# Altium schematic symbol library kmilo17pet-NSC_MiscPower.SchLib: 1552 symbols (part 6 of 43)
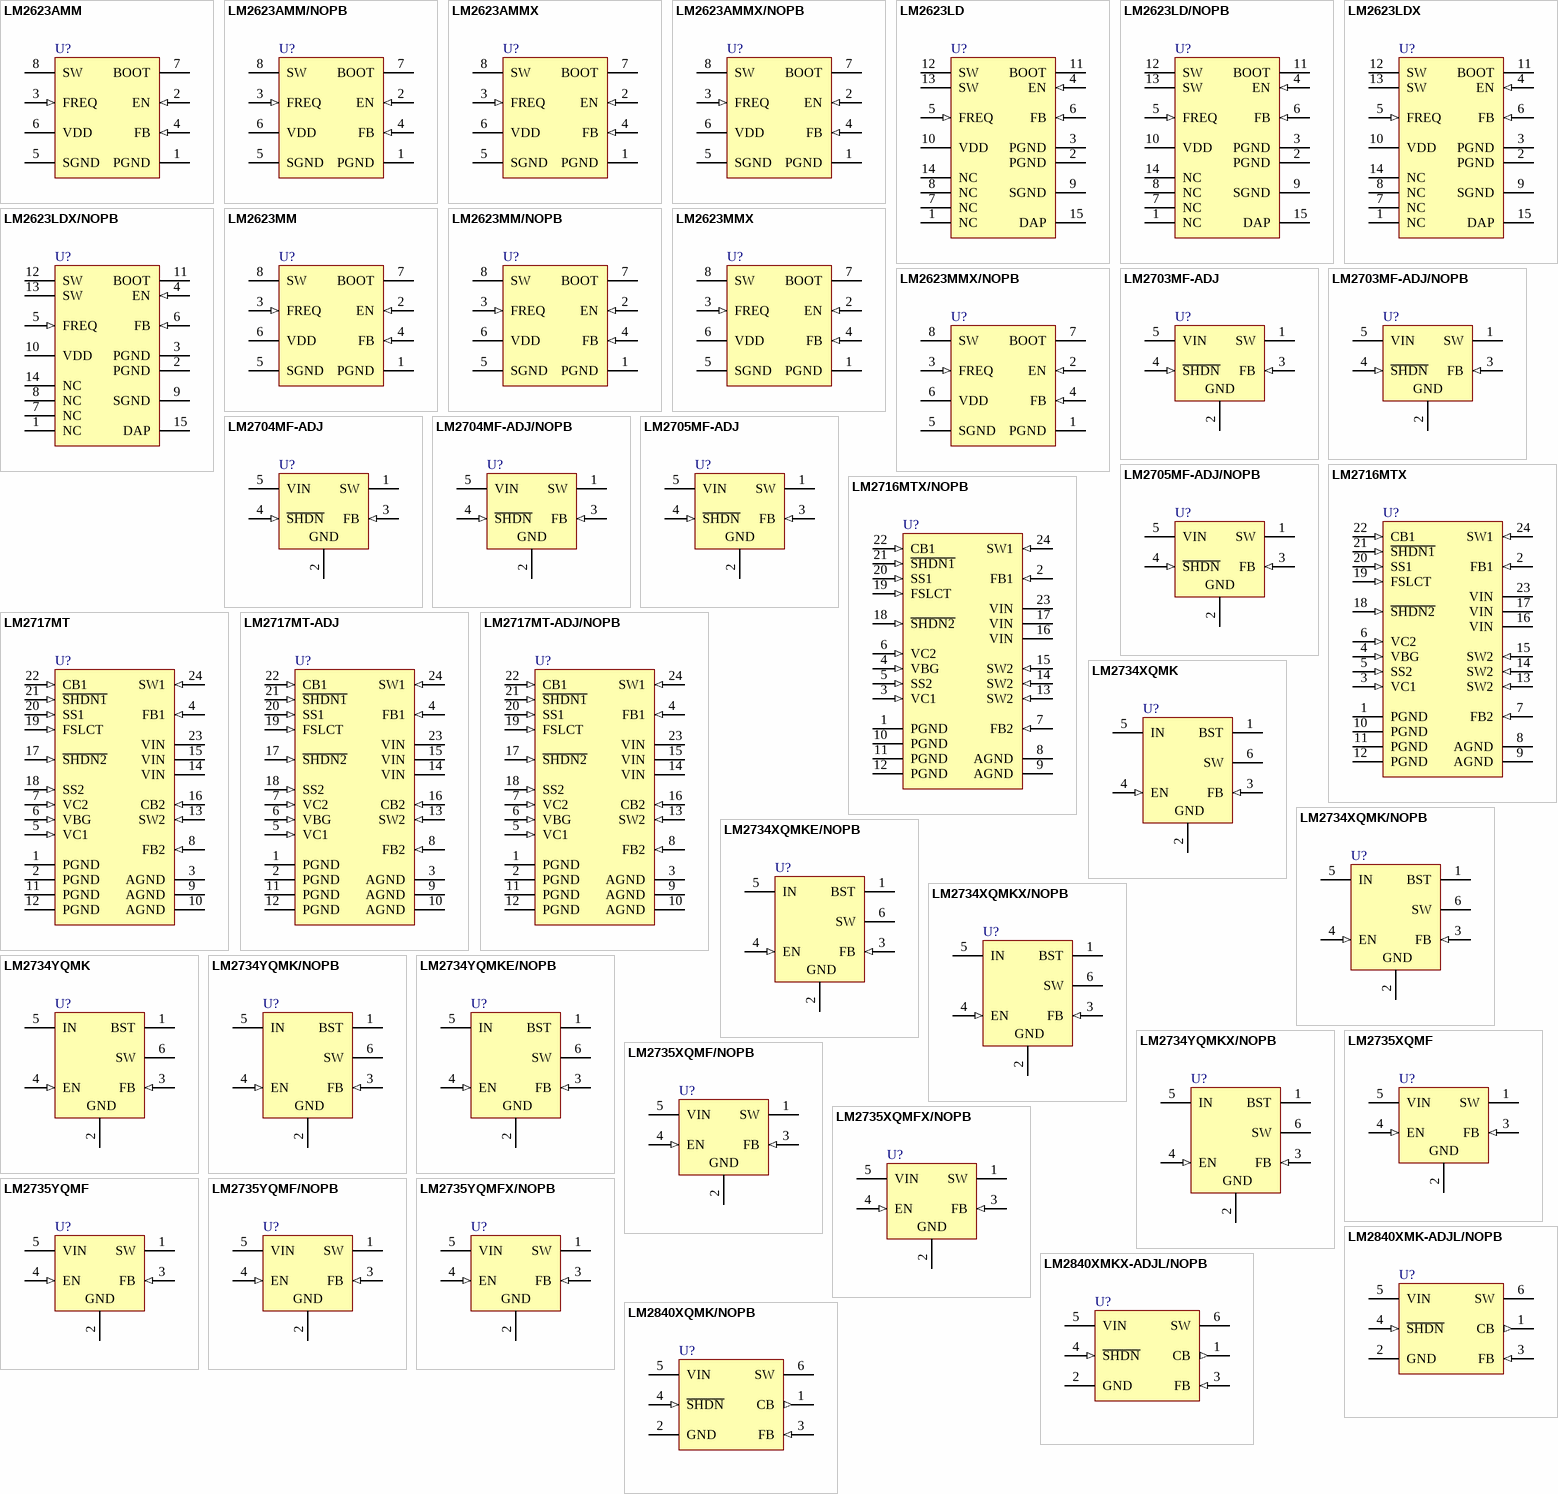
[diagram p62: symbols LM2623AMM to LM2840XQMK/NOPB]

## LM2717MT-ADJ
designator U?
Dual Step-Down DC/DC Converter, 24-pin TSSOP; PartNumber: LM2717MT-ADJ; Manufacturer: National Semiconductor; PackageTopMarking: NSUZXYTTE#*LM2717*MT-ADJ; PowerWise: N; CompType: MiscPower; High-Reliability: Y; DatasheetVersion: Mar-2008; PackageVersion: revE, Mar-2003; PackageReference: MTC24; PackageDescription: Molded TSSOP, Jedec, 7.8 x 4.4 x 0.9mm Body, 24 Lead, 0.65mm Pitch; RoHS: N; PinCount: 24; Code_JEDEC: MO-153-AD; ComponentLink1Description: Manufacturer URL; ComponentLink1URL: http://www.national.com/; ComponentLink2Description: LM2717 Datasheet; ComponentLink2URL: http://www.national.com/ds/LM/LM2717-ADJ.pdf; ComponentLink3Description: LM2717 Web Page; ComponentLink3URL: http://www.national.com/pf/LM/LM2717.html; ComponentLink4Description: MTC24 Package Page; ComponentLink4URL: http://www.national.com/packaging/folders/mtc24.html
footprint MTC24_N (TSOP, 24-Leads, Body 7.8x4.4mm, Pitch 0.65mm, IPC Medium Density)
footprint MTC24_L (TSOP, 24-Leads, Body 7.8x4.4mm, Pitch 0.65mm, IPC High Density)
footprint MTC24_M (TSOP, 24-Leads, Body 7.8x4.4mm, Pitch 0.65mm, IPC Low Density)
pins: 1 PGND (power) "Power ground. AGND and PGND pins must be connected together directly at the part.", 2 PGND (power) "Power ground. AGND and PGND pins must be connected together directly at the part.", 3 AGND (power) "Analog ground. AGND and PGND pins must be connected together directly at the part.", 4 FB1 (in) "Fixed buck output voltage feedback input.", 5 VC1 (in) "Fixed buck compensation network connection. Connected to the output of the voltage error amplifier.", 6 VBG (in) "Bandgap connection.", 7 VC2 (in) "Adjustable buck compensation network connection.", 8 FB2 (in) "Adjustable buck output voltage feedback input.", 9 AGND (power) "Analog ground. AGND and PGND pins must be connected together directly at the part.", 10 AGND (power) "Analog ground. AGND and PGND pins must be connected together directly at the part.", 11 PGND (power) "Power ground. AGND and PGND pins must be connected together directly at the part.", 12 PGND (power) "Power ground. AGND and PGND pins must be connected together directly at the part.", 13 SW2 (in) "Adjustable buck power switch input.", 14 VIN (power) "Analog power input.", 15 VIN (power) "Analog power input.", 16 CB2 (in) "Adjustable buck converter bootstrap capacitor connection.", 17 ~{SHDN2} (in) "Shutdown pin for adjustable buck converter. Active low.", 18 SS2 (in) "Adjustable buck soft start pin.", 19 FSLCT (in) "Switching frequency select input.", 20 SS1 (in) "Fixed buck soft start pin.", 21 ~{SHDN1} (in) "Shutdown pin for fixed buck converter. Active low.", 22 CB1 (in) "Fixed buck converter bootstrap capacitor connection.", 23 VIN (power) "Analog power input.", 24 SW1 (in) "Fixed buck power switch input. Switch connected between VIN pins and SW1 pin."

## LM2717MT-ADJ/NOPB
designator U?
Dual Step-Down DC/DC Converter, 24-pin TSSOP, Pb-Free; PartNumber: LM2717MT-ADJ/NOPB; Manufacturer: National Semiconductor; PackageTopMarking: NSUZXYTTE#*LM2717*MT-ADJ; PowerWise: N; CompType: MiscPower; High-Reliability: Y; DatasheetVersion: Mar-2008; PackageVersion: revE, Mar-2003; PackageReference: MTC24; PackageDescription: Molded TSSOP, Jedec, 7.8 x 4.4 x 0.9mm Body, 24 Lead, 0.65mm Pitch; RoHS: Y; PinCount: 24; Code_JEDEC: MO-153-AD; ComponentLink1Description: Manufacturer URL; ComponentLink1URL: http://www.national.com/; ComponentLink2Description: LM2717 Datasheet; ComponentLink2URL: http://www.national.com/ds/LM/LM2717-ADJ.pdf; ComponentLink3Description: LM2717 Web Page; ComponentLink3URL: http://www.national.com/pf/LM/LM2717.html; ComponentLink4Description: MTC24 Package Page; ComponentLink4URL: http://www.national.com/packaging/folders/mtc24.html
footprint MTC24_N (TSOP, 24-Leads, Body 7.8x4.4mm, Pitch 0.65mm, IPC Medium Density)
footprint MTC24_L (TSOP, 24-Leads, Body 7.8x4.4mm, Pitch 0.65mm, IPC High Density)
footprint MTC24_M (TSOP, 24-Leads, Body 7.8x4.4mm, Pitch 0.65mm, IPC Low Density)
pins: 1 PGND (power) "Power ground. AGND and PGND pins must be connected together directly at the part.", 2 PGND (power) "Power ground. AGND and PGND pins must be connected together directly at the part.", 3 AGND (power) "Analog ground. AGND and PGND pins must be connected together directly at the part.", 4 FB1 (in) "Fixed buck output voltage feedback input.", 5 VC1 (in) "Fixed buck compensation network connection. Connected to the output of the voltage error amplifier.", 6 VBG (in) "Bandgap connection.", 7 VC2 (in) "Adjustable buck compensation network connection.", 8 FB2 (in) "Adjustable buck output voltage feedback input.", 9 AGND (power) "Analog ground. AGND and PGND pins must be connected together directly at the part.", 10 AGND (power) "Analog ground. AGND and PGND pins must be connected together directly at the part.", 11 PGND (power) "Power ground. AGND and PGND pins must be connected together directly at the part.", 12 PGND (power) "Power ground. AGND and PGND pins must be connected together directly at the part.", 13 SW2 (in) "Adjustable buck power switch input.", 14 VIN (power) "Analog power input.", 15 VIN (power) "Analog power input.", 16 CB2 (in) "Adjustable buck converter bootstrap capacitor connection.", 17 ~{SHDN2} (in) "Shutdown pin for adjustable buck converter. Active low.", 18 SS2 (in) "Adjustable buck soft start pin.", 19 FSLCT (in) "Switching frequency select input.", 20 SS1 (in) "Fixed buck soft start pin.", 21 ~{SHDN1} (in) "Shutdown pin for fixed buck converter. Active low.", 22 CB1 (in) "Fixed buck converter bootstrap capacitor connection.", 23 VIN (power) "Analog power input.", 24 SW1 (in) "Fixed buck power switch input. Switch connected between VIN pins and SW1 pin."

## LM2734XQMK
designator U?
1A Load Step-Down DC-DC Regulator, 6-pin Tiny SOT23; PartNumber: LM2734XQMK; Manufacturer: National Semiconductor; PackageTopMarking: SUKB*XTT; PowerWise: N; CompType: MiscPower; High-Reliability: Y; DatasheetVersion: Apr-2009; PackageVersion: revE, Nov-2008; PackageReference: MK06A; PackageDescription: Molded TSOT, 2.97 x 1.65 x 0.87mm Body, 6 Lead, 0.95mm Pitch; RoHS: Y; PinCount: 6; Code_JEDEC: MO-193-AA; Code_IPC: SOT26A-6; ComponentLink1Description: Manufacturer URL; ComponentLink1URL: http://www.national.com/; ComponentLink2Description: LM2734 Datasheet; ComponentLink2URL: http://www.national.com/ds/LM/LM2734.pdf; ComponentLink3Description: LM2734 Web Page; ComponentLink3URL: http://www.national.com/pf/LM/LM2734.html; ComponentLink4Description: MK06A Package Page; ComponentLink4URL: http://www.national.com/packaging/folders/mk06a.html
footprint MK06A_N (SOT23, 6-Leads, Body 3.0x1.7mm, Pitch 0.95mm, Lead Span 2.9mm, IPC Medium Density)
footprint MK06A_L (SOT23, 6-Leads, Body 3.0x1.7mm, Pitch 0.95mm, Lead Span 2.9mm, IPC High Density)
footprint MK06A_M (SOT23, 6-Leads, Body 3.0x1.7mm, Pitch 0.95mm, Lead Span 2.9mm, IPC Low Density)
pins: 1 BST, 2 GND (power), 3 FB (in), 4 EN (in), 5 IN (power), 6 SW (power)

## LM2734XQMK/NOPB
designator U?
1A Load Step-Down DC-DC Regulator, 6-pin Tiny SOT23, Pb-Free; PartNumber: LM2734XQMK/NOPB; Manufacturer: National Semiconductor; PackageTopMarking: SUKB*XTT; PowerWise: N; CompType: MiscPower; High-Reliability: Y; DatasheetVersion: Apr-2009; PackageVersion: revE, Nov-2008; PackageReference: MK06A; PackageDescription: Molded TSOT, 2.97 x 1.65 x 0.87mm Body, 6 Lead, 0.95mm Pitch; RoHS: Y; PinCount: 6; Code_JEDEC: MO-193-AA; Code_IPC: SOT26A-6; ComponentLink1Description: Manufacturer URL; ComponentLink1URL: http://www.national.com/; ComponentLink2Description: LM2734 Datasheet; ComponentLink2URL: http://www.national.com/ds/LM/LM2734.pdf; ComponentLink3Description: LM2734 Web Page; ComponentLink3URL: http://www.national.com/pf/LM/LM2734.html; ComponentLink4Description: MK06A Package Page; ComponentLink4URL: http://www.national.com/packaging/folders/mk06a.html
footprint MK06A_N (SOT23, 6-Leads, Body 3.0x1.7mm, Pitch 0.95mm, Lead Span 2.9mm, IPC Medium Density)
footprint MK06A_L (SOT23, 6-Leads, Body 3.0x1.7mm, Pitch 0.95mm, Lead Span 2.9mm, IPC High Density)
footprint MK06A_M (SOT23, 6-Leads, Body 3.0x1.7mm, Pitch 0.95mm, Lead Span 2.9mm, IPC Low Density)
pins: 1 BST, 2 GND (power), 3 FB (in), 4 EN (in), 5 IN (power), 6 SW (power)

## LM2734XQMKE/NOPB
designator U?
1A Load Step-Down DC-DC Regulator, 6-pin Tiny SOT23, Pb-Free; PartNumber: LM2734XQMKE/NOPB; Manufacturer: National Semiconductor; PackageTopMarking: SUKB*XTT; PowerWise: N; CompType: MiscPower; High-Reliability: Y; DatasheetVersion: Apr-2009; PackageVersion: revE, Nov-2008; PackageReference: MK06A; PackageDescription: Molded TSOT, 2.97 x 1.65 x 0.87mm Body, 6 Lead, 0.95mm Pitch; RoHS: Y; PinCount: 6; Code_JEDEC: MO-193-AA; Code_IPC: SOT26A-6; ComponentLink1Description: Manufacturer URL; ComponentLink1URL: http://www.national.com/; ComponentLink2Description: LM2734 Datasheet; ComponentLink2URL: http://www.national.com/ds/LM/LM2734.pdf; ComponentLink3Description: LM2734 Web Page; ComponentLink3URL: http://www.national.com/pf/LM/LM2734.html; ComponentLink4Description: MK06A Package Page; ComponentLink4URL: http://www.national.com/packaging/folders/mk06a.html
footprint MK06A_N (SOT23, 6-Leads, Body 3.0x1.7mm, Pitch 0.95mm, Lead Span 2.9mm, IPC Medium Density)
footprint MK06A_L (SOT23, 6-Leads, Body 3.0x1.7mm, Pitch 0.95mm, Lead Span 2.9mm, IPC High Density)
footprint MK06A_M (SOT23, 6-Leads, Body 3.0x1.7mm, Pitch 0.95mm, Lead Span 2.9mm, IPC Low Density)
pins: 1 BST, 2 GND (power), 3 FB (in), 4 EN (in), 5 IN (power), 6 SW (power)

## LM2734XQMKX/NOPB
designator U?
1A Load Step-Down DC-DC Regulator, 6-pin Tiny SOT23, Pb-Free; PartNumber: LM2734XQMKX/NOPB; Manufacturer: National Semiconductor; PackageTopMarking: SUKB*XTT; PowerWise: N; CompType: MiscPower; High-Reliability: Y; DatasheetVersion: Apr-2009; PackageVersion: revE, Nov-2008; PackageReference: MK06A; PackageDescription: Molded TSOT, 2.97 x 1.65 x 0.87mm Body, 6 Lead, 0.95mm Pitch; RoHS: Y; PinCount: 6; Code_JEDEC: MO-193-AA; Code_IPC: SOT26A-6; ComponentLink1Description: Manufacturer URL; ComponentLink1URL: http://www.national.com/; ComponentLink2Description: LM2734 Datasheet; ComponentLink2URL: http://www.national.com/ds/LM/LM2734.pdf; ComponentLink3Description: LM2734 Web Page; ComponentLink3URL: http://www.national.com/pf/LM/LM2734.html; ComponentLink4Description: MK06A Package Page; ComponentLink4URL: http://www.national.com/packaging/folders/mk06a.html
footprint MK06A_N (SOT23, 6-Leads, Body 3.0x1.7mm, Pitch 0.95mm, Lead Span 2.9mm, IPC Medium Density)
footprint MK06A_L (SOT23, 6-Leads, Body 3.0x1.7mm, Pitch 0.95mm, Lead Span 2.9mm, IPC High Density)
footprint MK06A_M (SOT23, 6-Leads, Body 3.0x1.7mm, Pitch 0.95mm, Lead Span 2.9mm, IPC Low Density)
pins: 1 BST, 2 GND (power), 3 FB (in), 4 EN (in), 5 IN (power), 6 SW (power)

## LM2734YQMK
designator U?
1A Load Step-Down DC-DC Regulator, 6-pin Tiny SOT23; PartNumber: LM2734YQMK; Manufacturer: National Semiconductor; PackageTopMarking: SVCB*XTT; PowerWise: N; CompType: MiscPower; High-Reliability: Y; DatasheetVersion: Apr-2009; PackageVersion: revE, Nov-2008; PackageReference: MK06A; PackageDescription: Molded TSOT, 2.97 x 1.65 x 0.87mm Body, 6 Lead, 0.95mm Pitch; RoHS: Y; PinCount: 6; Code_JEDEC: MO-193-AA; Code_IPC: SOT26A-6; ComponentLink1Description: Manufacturer URL; ComponentLink1URL: http://www.national.com/; ComponentLink2Description: LM2734 Datasheet; ComponentLink2URL: http://www.national.com/ds/LM/LM2734.pdf; ComponentLink3Description: LM2734 Web Page; ComponentLink3URL: http://www.national.com/pf/LM/LM2734.html; ComponentLink4Description: MK06A Package Page; ComponentLink4URL: http://www.national.com/packaging/folders/mk06a.html
footprint MK06A_N (SOT23, 6-Leads, Body 3.0x1.7mm, Pitch 0.95mm, Lead Span 2.9mm, IPC Medium Density)
footprint MK06A_L (SOT23, 6-Leads, Body 3.0x1.7mm, Pitch 0.95mm, Lead Span 2.9mm, IPC High Density)
footprint MK06A_M (SOT23, 6-Leads, Body 3.0x1.7mm, Pitch 0.95mm, Lead Span 2.9mm, IPC Low Density)
pins: 1 BST, 2 GND (power), 3 FB (in), 4 EN (in), 5 IN (power), 6 SW (power)

## LM2734YQMK/NOPB
designator U?
1A Load Step-Down DC-DC Regulator, 6-pin Tiny SOT23, Pb-Free; PartNumber: LM2734YQMK/NOPB; Manufacturer: National Semiconductor; PackageTopMarking: SVCB*XTT; PowerWise: N; CompType: MiscPower; High-Reliability: Y; DatasheetVersion: Apr-2009; PackageVersion: revE, Nov-2008; PackageReference: MK06A; PackageDescription: Molded TSOT, 2.97 x 1.65 x 0.87mm Body, 6 Lead, 0.95mm Pitch; RoHS: Y; PinCount: 6; Code_JEDEC: MO-193-AA; Code_IPC: SOT26A-6; ComponentLink1Description: Manufacturer URL; ComponentLink1URL: http://www.national.com/; ComponentLink2Description: LM2734 Datasheet; ComponentLink2URL: http://www.national.com/ds/LM/LM2734.pdf; ComponentLink3Description: LM2734 Web Page; ComponentLink3URL: http://www.national.com/pf/LM/LM2734.html; ComponentLink4Description: MK06A Package Page; ComponentLink4URL: http://www.national.com/packaging/folders/mk06a.html
footprint MK06A_N (SOT23, 6-Leads, Body 3.0x1.7mm, Pitch 0.95mm, Lead Span 2.9mm, IPC Medium Density)
footprint MK06A_L (SOT23, 6-Leads, Body 3.0x1.7mm, Pitch 0.95mm, Lead Span 2.9mm, IPC High Density)
footprint MK06A_M (SOT23, 6-Leads, Body 3.0x1.7mm, Pitch 0.95mm, Lead Span 2.9mm, IPC Low Density)
pins: 1 BST, 2 GND (power), 3 FB (in), 4 EN (in), 5 IN (power), 6 SW (power)

## LM2734YQMKE/NOPB
designator U?
1A Load Step-Down DC-DC Regulator, 6-pin Tiny SOT23, Pb-Free; PartNumber: LM2734YQMKE/NOPB; Manufacturer: National Semiconductor; PackageTopMarking: SVCB*XTT; PowerWise: N; CompType: MiscPower; High-Reliability: Y; DatasheetVersion: Apr-2009; PackageVersion: revE, Nov-2008; PackageReference: MK06A; PackageDescription: Molded TSOT, 2.97 x 1.65 x 0.87mm Body, 6 Lead, 0.95mm Pitch; RoHS: Y; PinCount: 6; Code_JEDEC: MO-193-AA; Code_IPC: SOT26A-6; ComponentLink1Description: Manufacturer URL; ComponentLink1URL: http://www.national.com/; ComponentLink2Description: LM2734 Datasheet; ComponentLink2URL: http://www.national.com/ds/LM/LM2734.pdf; ComponentLink3Description: LM2734 Web Page; ComponentLink3URL: http://www.national.com/pf/LM/LM2734.html; ComponentLink4Description: MK06A Package Page; ComponentLink4URL: http://www.national.com/packaging/folders/mk06a.html
footprint MK06A_N (SOT23, 6-Leads, Body 3.0x1.7mm, Pitch 0.95mm, Lead Span 2.9mm, IPC Medium Density)
footprint MK06A_L (SOT23, 6-Leads, Body 3.0x1.7mm, Pitch 0.95mm, Lead Span 2.9mm, IPC High Density)
footprint MK06A_M (SOT23, 6-Leads, Body 3.0x1.7mm, Pitch 0.95mm, Lead Span 2.9mm, IPC Low Density)
pins: 1 BST, 2 GND (power), 3 FB (in), 4 EN (in), 5 IN (power), 6 SW (power)

## LM2734YQMKX/NOPB
designator U?
1A Load Step-Down DC-DC Regulator, 6-pin Tiny SOT23, Pb-Free; PartNumber: LM2734YQMKX/NOPB; Manufacturer: National Semiconductor; PackageTopMarking: SVCB*XTT; PowerWise: N; CompType: MiscPower; High-Reliability: Y; DatasheetVersion: Apr-2009; PackageVersion: revE, Nov-2008; PackageReference: MK06A; PackageDescription: Molded TSOT, 2.97 x 1.65 x 0.87mm Body, 6 Lead, 0.95mm Pitch; RoHS: Y; PinCount: 6; Code_JEDEC: MO-193-AA; Code_IPC: SOT26A-6; ComponentLink1Description: Manufacturer URL; ComponentLink1URL: http://www.national.com/; ComponentLink2Description: LM2734 Datasheet; ComponentLink2URL: http://www.national.com/ds/LM/LM2734.pdf; ComponentLink3Description: LM2734 Web Page; ComponentLink3URL: http://www.national.com/pf/LM/LM2734.html; ComponentLink4Description: MK06A Package Page; ComponentLink4URL: http://www.national.com/packaging/folders/mk06a.html
footprint MK06A_N (SOT23, 6-Leads, Body 3.0x1.7mm, Pitch 0.95mm, Lead Span 2.9mm, IPC Medium Density)
footprint MK06A_L (SOT23, 6-Leads, Body 3.0x1.7mm, Pitch 0.95mm, Lead Span 2.9mm, IPC High Density)
footprint MK06A_M (SOT23, 6-Leads, Body 3.0x1.7mm, Pitch 0.95mm, Lead Span 2.9mm, IPC Low Density)
pins: 1 BST, 2 GND (power), 3 FB (in), 4 EN (in), 5 IN (power), 6 SW (power)

## LM2735XQMF
designator U?
520kHz/1.6MHz - Space-Efficient Boost and SEPIC DC-DC Regulator, 5-pin SOT-23; PartNumber: LM2735XQMF; Manufacturer: National Semiconductor; PackageTopMarking: SVDB*XTT; PowerWise: N; CompType: MiscPower; High-Reliability: Y; DatasheetVersion: Feb-2009; PackageVersion: revD, Aug-2008; PackageReference: MF05A; PackageDescription: Molded SOT-23, .115 x .063 x .040 in Body, 5 Lead, .0375 in Pitch; RoHS: Y; PinCount: 5; ComponentLink1Description: Manufacturer URL; ComponentLink1URL: http://www.national.com/; ComponentLink2Description: LM2735 Datasheet; ComponentLink2URL: http://www.national.com/ds/LM/LM2735.pdf; ComponentLink3Description: LM2735 Web Page; ComponentLink3URL: http://www.national.com/pf/LM/LM2735.html; ComponentLink4Description: MF05A Package Page; ComponentLink4URL: http://www.national.com/packaging/folders/mf05a.html
footprint MF05A_N (SOT23, 5-Leads, Body 2.9x1.6mm, Pitch 0.95mm, Lead Span 2.8mm, IPC Medium Density)
footprint MF05A_L (SOT23, 5-Leads, Body 2.9x1.6mm, Pitch 0.95mm, Lead Span 2.8mm, IPC High Density)
footprint MF05A_M (SOT23, 5-Leads, Body 2.9x1.6mm, Pitch 0.95mm, Lead Span 2.8mm, IPC Low Density)
pins: 1 SW (power), 2 GND (power), 3 FB (in), 4 EN (in), 5 VIN (power)

## LM2735XQMF/NOPB
designator U?
520kHz/1.6MHz - Space-Efficient Boost and SEPIC DC-DC Regulator, 5-pin SOT-23, Pb-Free; PartNumber: LM2735XQMF/NOPB; Manufacturer: National Semiconductor; PackageTopMarking: SVDB*XTT; PowerWise: N; CompType: MiscPower; High-Reliability: Y; DatasheetVersion: Feb-2009; PackageVersion: revD, Aug-2008; PackageReference: MF05A; PackageDescription: Molded SOT-23, .115 x .063 x .040 in Body, 5 Lead, .0375 in Pitch; RoHS: Y; PinCount: 5; ComponentLink1Description: Manufacturer URL; ComponentLink1URL: http://www.national.com/; ComponentLink2Description: LM2735 Datasheet; ComponentLink2URL: http://www.national.com/ds/LM/LM2735.pdf; ComponentLink3Description: LM2735 Web Page; ComponentLink3URL: http://www.national.com/pf/LM/LM2735.html; ComponentLink4Description: MF05A Package Page; ComponentLink4URL: http://www.national.com/packaging/folders/mf05a.html
footprint MF05A_N (SOT23, 5-Leads, Body 2.9x1.6mm, Pitch 0.95mm, Lead Span 2.8mm, IPC Medium Density)
footprint MF05A_L (SOT23, 5-Leads, Body 2.9x1.6mm, Pitch 0.95mm, Lead Span 2.8mm, IPC High Density)
footprint MF05A_M (SOT23, 5-Leads, Body 2.9x1.6mm, Pitch 0.95mm, Lead Span 2.8mm, IPC Low Density)
pins: 1 SW (power), 2 GND (power), 3 FB (in), 4 EN (in), 5 VIN (power)

## LM2735XQMFX/NOPB
designator U?
520kHz/1.6MHz - Space-Efficient Boost and SEPIC DC-DC Regulator, 5-pin SOT-23, Pb-Free; PartNumber: LM2735XQMFX/NOPB; Manufacturer: National Semiconductor; PackageTopMarking: SVDB*XTT; PowerWise: N; CompType: MiscPower; High-Reliability: Y; DatasheetVersion: Feb-2009; PackageVersion: revD, Aug-2008; PackageReference: MF05A; PackageDescription: Molded SOT-23, .115 x .063 x .040 in Body, 5 Lead, .0375 in Pitch; RoHS: Y; PinCount: 5; ComponentLink1Description: Manufacturer URL; ComponentLink1URL: http://www.national.com/; ComponentLink2Description: LM2735 Datasheet; ComponentLink2URL: http://www.national.com/ds/LM/LM2735.pdf; ComponentLink3Description: LM2735 Web Page; ComponentLink3URL: http://www.national.com/pf/LM/LM2735.html; ComponentLink4Description: MF05A Package Page; ComponentLink4URL: http://www.national.com/packaging/folders/mf05a.html
footprint MF05A_N (SOT23, 5-Leads, Body 2.9x1.6mm, Pitch 0.95mm, Lead Span 2.8mm, IPC Medium Density)
footprint MF05A_L (SOT23, 5-Leads, Body 2.9x1.6mm, Pitch 0.95mm, Lead Span 2.8mm, IPC High Density)
footprint MF05A_M (SOT23, 5-Leads, Body 2.9x1.6mm, Pitch 0.95mm, Lead Span 2.8mm, IPC Low Density)
pins: 1 SW (power), 2 GND (power), 3 FB (in), 4 EN (in), 5 VIN (power)

## LM2735YQMF
designator U?
520kHz/1.6MHz - Space-Efficient Boost and SEPIC DC-DC Regulator, 5-pin SOT-23; PartNumber: LM2735YQMF; Manufacturer: National Semiconductor; PackageTopMarking: SXUB*XTT; PowerWise: N; CompType: MiscPower; High-Reliability: Y; DatasheetVersion: Feb-2009; PackageVersion: revD, Aug-2008; PackageReference: MF05A; PackageDescription: Molded SOT-23, .115 x .063 x .040 in Body, 5 Lead, .0375 in Pitch; RoHS: Y; PinCount: 5; ComponentLink1Description: Manufacturer URL; ComponentLink1URL: http://www.national.com/; ComponentLink2Description: LM2735 Datasheet; ComponentLink2URL: http://www.national.com/ds/LM/LM2735.pdf; ComponentLink3Description: LM2735 Web Page; ComponentLink3URL: http://www.national.com/pf/LM/LM2735.html; ComponentLink4Description: MF05A Package Page; ComponentLink4URL: http://www.national.com/packaging/folders/mf05a.html
footprint MF05A_N (SOT23, 5-Leads, Body 2.9x1.6mm, Pitch 0.95mm, Lead Span 2.8mm, IPC Medium Density)
footprint MF05A_L (SOT23, 5-Leads, Body 2.9x1.6mm, Pitch 0.95mm, Lead Span 2.8mm, IPC High Density)
footprint MF05A_M (SOT23, 5-Leads, Body 2.9x1.6mm, Pitch 0.95mm, Lead Span 2.8mm, IPC Low Density)
pins: 1 SW (power), 2 GND (power), 3 FB (in), 4 EN (in), 5 VIN (power)

## LM2735YQMF/NOPB
designator U?
520kHz/1.6MHz - Space-Efficient Boost and SEPIC DC-DC Regulator, 5-pin SOT-23, Pb-Free; PartNumber: LM2735YQMF/NOPB; Manufacturer: National Semiconductor; PackageTopMarking: SXUB*XTT; PowerWise: N; CompType: MiscPower; High-Reliability: Y; DatasheetVersion: Feb-2009; PackageVersion: revD, Aug-2008; PackageReference: MF05A; PackageDescription: Molded SOT-23, .115 x .063 x .040 in Body, 5 Lead, .0375 in Pitch; RoHS: Y; PinCount: 5; ComponentLink1Description: Manufacturer URL; ComponentLink1URL: http://www.national.com/; ComponentLink2Description: LM2735 Datasheet; ComponentLink2URL: http://www.national.com/ds/LM/LM2735.pdf; ComponentLink3Description: LM2735 Web Page; ComponentLink3URL: http://www.national.com/pf/LM/LM2735.html; ComponentLink4Description: MF05A Package Page; ComponentLink4URL: http://www.national.com/packaging/folders/mf05a.html
footprint MF05A_N (SOT23, 5-Leads, Body 2.9x1.6mm, Pitch 0.95mm, Lead Span 2.8mm, IPC Medium Density)
footprint MF05A_L (SOT23, 5-Leads, Body 2.9x1.6mm, Pitch 0.95mm, Lead Span 2.8mm, IPC High Density)
footprint MF05A_M (SOT23, 5-Leads, Body 2.9x1.6mm, Pitch 0.95mm, Lead Span 2.8mm, IPC Low Density)
pins: 1 SW (power), 2 GND (power), 3 FB (in), 4 EN (in), 5 VIN (power)

## LM2735YQMFX/NOPB
designator U?
520kHz/1.6MHz - Space-Efficient Boost and SEPIC DC-DC Regulator, 5-pin SOT-23, Pb-Free; PartNumber: LM2735YQMFX/NOPB; Manufacturer: National Semiconductor; PackageTopMarking: SXUB*XTT; PowerWise: N; CompType: MiscPower; High-Reliability: Y; DatasheetVersion: Feb-2009; PackageVersion: revD, Aug-2008; PackageReference: MF05A; PackageDescription: Molded SOT-23, .115 x .063 x .040 in Body, 5 Lead, .0375 in Pitch; RoHS: Y; PinCount: 5; ComponentLink1Description: Manufacturer URL; ComponentLink1URL: http://www.national.com/; ComponentLink2Description: LM2735 Datasheet; ComponentLink2URL: http://www.national.com/ds/LM/LM2735.pdf; ComponentLink3Description: LM2735 Web Page; ComponentLink3URL: http://www.national.com/pf/LM/LM2735.html; ComponentLink4Description: MF05A Package Page; ComponentLink4URL: http://www.national.com/packaging/folders/mf05a.html
footprint MF05A_N (SOT23, 5-Leads, Body 2.9x1.6mm, Pitch 0.95mm, Lead Span 2.8mm, IPC Medium Density)
footprint MF05A_L (SOT23, 5-Leads, Body 2.9x1.6mm, Pitch 0.95mm, Lead Span 2.8mm, IPC High Density)
footprint MF05A_M (SOT23, 5-Leads, Body 2.9x1.6mm, Pitch 0.95mm, Lead Span 2.8mm, IPC Low Density)
pins: 1 SW (power), 2 GND (power), 3 FB (in), 4 EN (in), 5 VIN (power)

## LM2840XMK-ADJL/NOPB
designator U?
100 mA up to 42V Input Step-Down DC/DC Regulator, Thin 6-pin SOT23, Pb-Free, 3000 Reel; PartNumber: LM2840XMK-ADJL/NOPB; Manufacturer: National Semiconductor; PackageTopMarking: SE8B*XTT; PowerWise: N; CompType: MiscPower; High-Reliability: Y; DatasheetVersion: Aug-2011; PackageVersion: revE, Nov-2008; PackageReference: MK06A; PackageDescription: Molded TSOT, 2.97 x 1.65 x 0.87mm Body, 6 Lead, 0.95mm Pitch; RoHS: Y; PinCount: 6; Code_JEDEC: MO-193-AA; Code_IPC: SOT26A-6; ComponentLink1Description: Manufacturer URL; ComponentLink1URL: http://www.national.com/; ComponentLink2Description: LM2840 Datasheet; ComponentLink2URL: http://www.national.com/ds/LM/LM2840.pdf; ComponentLink3Description: LM2840 Web Page; ComponentLink3URL: http://www.national.com/pf/LM/LM2840.html; ComponentLink4Description: MK06A Package Page; ComponentLink4URL: http://www.national.com/packaging/folders/mk06a.html
footprint MK06A_N (SOT23, 6-Leads, Body 3.0x1.7mm, Pitch 0.95mm, Lead Span 2.9mm, IPC Medium Density)
footprint MK06A_L (SOT23, 6-Leads, Body 3.0x1.7mm, Pitch 0.95mm, Lead Span 2.9mm, IPC High Density)
footprint MK06A_M (SOT23, 6-Leads, Body 3.0x1.7mm, Pitch 0.95mm, Lead Span 2.9mm, IPC Low Density)
pins: 1 CB (out), 2 GND (power), 3 FB (in), 4 ~{SHDN} (in), 5 VIN (power), 6 SW (power)

## LM2840XMKX-ADJL/NOPB
designator U?
100 mA up to 42V Input Step-Down DC/DC Regulator, Thin 6-pin SOT23, Pb-Free, 3000 Reel; PartNumber: LM2840XMKX-ADJL/NOPB; Manufacturer: National Semiconductor; PackageTopMarking: SE8B*XTT; PowerWise: N; CompType: MiscPower; High-Reliability: Y; DatasheetVersion: Aug-2011; PackageVersion: revE, Nov-2008; PackageReference: MK06A; PackageDescription: Molded TSOT, 2.97 x 1.65 x 0.87mm Body, 6 Lead, 0.95mm Pitch; RoHS: Y; PinCount: 6; Code_JEDEC: MO-193-AA; Code_IPC: SOT26A-6; ComponentLink1Description: Manufacturer URL; ComponentLink1URL: http://www.national.com/; ComponentLink2Description: LM2840 Datasheet; ComponentLink2URL: http://www.national.com/ds/LM/LM2840.pdf; ComponentLink3Description: LM2840 Web Page; ComponentLink3URL: http://www.national.com/pf/LM/LM2840.html; ComponentLink4Description: MK06A Package Page; ComponentLink4URL: http://www.national.com/packaging/folders/mk06a.html
footprint MK06A_N (SOT23, 6-Leads, Body 3.0x1.7mm, Pitch 0.95mm, Lead Span 2.9mm, IPC Medium Density)
footprint MK06A_L (SOT23, 6-Leads, Body 3.0x1.7mm, Pitch 0.95mm, Lead Span 2.9mm, IPC High Density)
footprint MK06A_M (SOT23, 6-Leads, Body 3.0x1.7mm, Pitch 0.95mm, Lead Span 2.9mm, IPC Low Density)
pins: 1 CB (out), 2 GND (power), 3 FB (in), 4 ~{SHDN} (in), 5 VIN (power), 6 SW (power)

## LM2840XQMK/NOPB
designator U?
100 mA up to 42V Input Step-Down DC/DC Regulator, Automotive Grade 1, Thin 6-pin SOT23, Pb-Free, 1000 Reel; PartNumber: LM2840XQMK/NOPB; Manufacturer: National Semiconductor; PackageTopMarking: SE9B*XTT; PowerWise: N; CompType: MiscPower; High-Reliability: Y; DatasheetVersion: Aug-2011; PackageVersion: revE, Nov-2008; PackageReference: MK06A; PackageDescription: Molded TSOT, 2.97 x 1.65 x 0.87mm Body, 6 Lead, 0.95mm Pitch; RoHS: Y; PinCount: 6; Code_JEDEC: MO-193-AA; Code_IPC: SOT26A-6; ComponentLink1Description: Manufacturer URL; ComponentLink1URL: http://www.national.com/; ComponentLink2Description: LM2840 Datasheet; ComponentLink2URL: http://www.national.com/ds/LM/LM2840.pdf; ComponentLink3Description: LM2840 Web Page; ComponentLink3URL: http://www.national.com/pf/LM/LM2840.html; ComponentLink4Description: MK06A Package Page; ComponentLink4URL: http://www.national.com/packaging/folders/mk06a.html
footprint MK06A_N (SOT23, 6-Leads, Body 3.0x1.7mm, Pitch 0.95mm, Lead Span 2.9mm, IPC Medium Density)
footprint MK06A_L (SOT23, 6-Leads, Body 3.0x1.7mm, Pitch 0.95mm, Lead Span 2.9mm, IPC High Density)
footprint MK06A_M (SOT23, 6-Leads, Body 3.0x1.7mm, Pitch 0.95mm, Lead Span 2.9mm, IPC Low Density)
pins: 1 CB (out), 2 GND (power), 3 FB (in), 4 ~{SHDN} (in), 5 VIN (power), 6 SW (power)

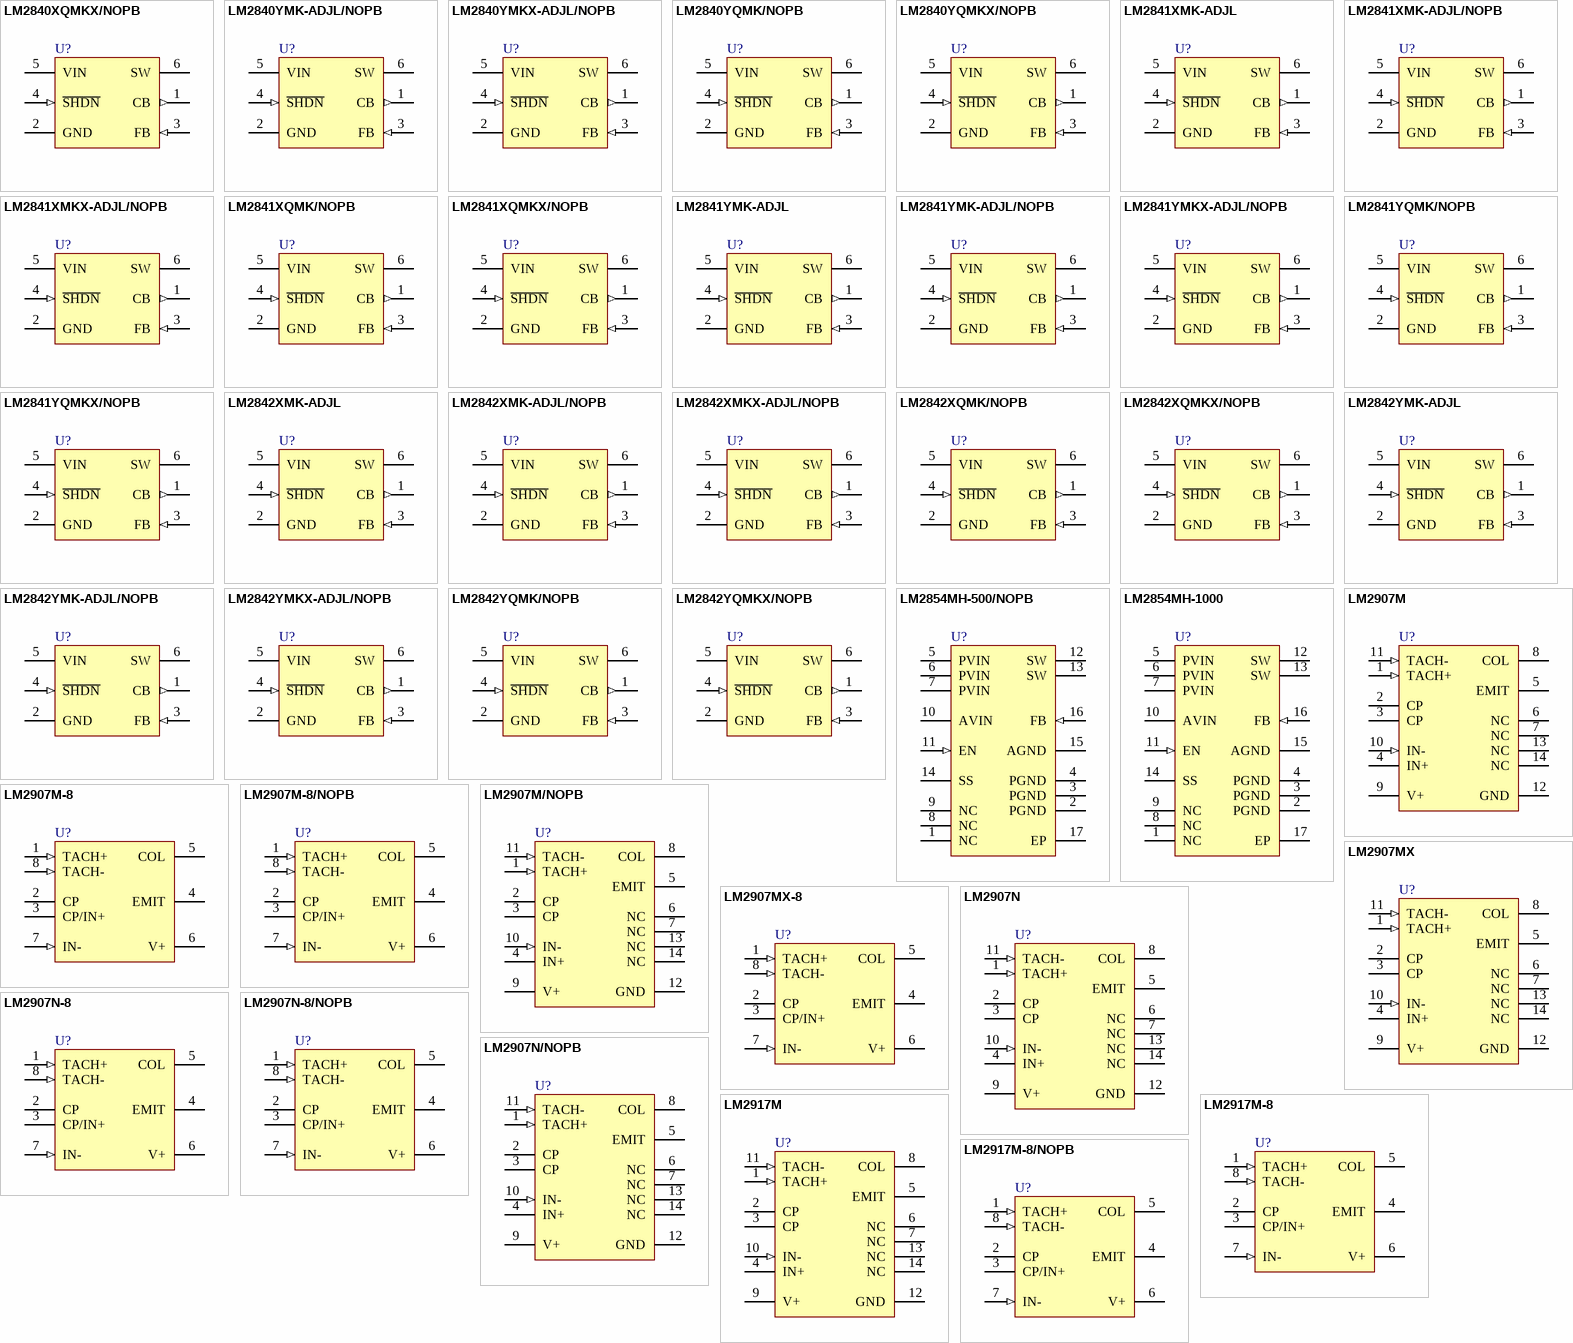
[diagram p7: symbols LM2840XQMKX/NOPB to LM2917M-8/NOPB]

## LM2840XQMKX/NOPB
designator U?
100 mA up to 42V Input Step-Down DC/DC Regulator, Automotive Grade 1, Thin 6-pin SOT23, Pb-Free, 3000 Reel; PartNumber: LM2840XQMKX/NOPB; Manufacturer: National Semiconductor; PackageTopMarking: SE9B*XTT; PowerWise: N; CompType: MiscPower; High-Reliability: Y; DatasheetVersion: Aug-2011; PackageVersion: revE, Nov-2008; PackageReference: MK06A; PackageDescription: Molded TSOT, 2.97 x 1.65 x 0.87mm Body, 6 Lead, 0.95mm Pitch; RoHS: Y; PinCount: 6; Code_JEDEC: MO-193-AA; Code_IPC: SOT26A-6; ComponentLink1Description: Manufacturer URL; ComponentLink1URL: http://www.national.com/; ComponentLink2Description: LM2840 Datasheet; ComponentLink2URL: http://www.national.com/ds/LM/LM2840.pdf; ComponentLink3Description: LM2840 Web Page; ComponentLink3URL: http://www.national.com/pf/LM/LM2840.html; ComponentLink4Description: MK06A Package Page; ComponentLink4URL: http://www.national.com/packaging/folders/mk06a.html
footprint MK06A_N (SOT23, 6-Leads, Body 3.0x1.7mm, Pitch 0.95mm, Lead Span 2.9mm, IPC Medium Density)
footprint MK06A_L (SOT23, 6-Leads, Body 3.0x1.7mm, Pitch 0.95mm, Lead Span 2.9mm, IPC High Density)
footprint MK06A_M (SOT23, 6-Leads, Body 3.0x1.7mm, Pitch 0.95mm, Lead Span 2.9mm, IPC Low Density)
pins: 1 CB (out), 2 GND (power), 3 FB (in), 4 ~{SHDN} (in), 5 VIN (power), 6 SW (power)

## LM2840YMK-ADJL/NOPB
designator U?
100 mA up to 42V Input Step-Down DC/DC Regulator, Thin 6-pin SOT23, Pb-Free, 1000 Reel; PartNumber: LM2840YMK-ADJL/NOPB; Manufacturer: National Semiconductor; PackageTopMarking: SF1B*XTT; PowerWise: N; CompType: MiscPower; High-Reliability: Y; DatasheetVersion: Aug-2011; PackageVersion: revE, Nov-2008; PackageReference: MK06A; PackageDescription: Molded TSOT, 2.97 x 1.65 x 0.87mm Body, 6 Lead, 0.95mm Pitch; RoHS: Y; PinCount: 6; Code_JEDEC: MO-193-AA; Code_IPC: SOT26A-6; ComponentLink1Description: Manufacturer URL; ComponentLink1URL: http://www.national.com/; ComponentLink2Description: LM2840 Datasheet; ComponentLink2URL: http://www.national.com/ds/LM/LM2840.pdf; ComponentLink3Description: LM2840 Web Page; ComponentLink3URL: http://www.national.com/pf/LM/LM2840.html; ComponentLink4Description: MK06A Package Page; ComponentLink4URL: http://www.national.com/packaging/folders/mk06a.html
footprint MK06A_N (SOT23, 6-Leads, Body 3.0x1.7mm, Pitch 0.95mm, Lead Span 2.9mm, IPC Medium Density)
footprint MK06A_L (SOT23, 6-Leads, Body 3.0x1.7mm, Pitch 0.95mm, Lead Span 2.9mm, IPC High Density)
footprint MK06A_M (SOT23, 6-Leads, Body 3.0x1.7mm, Pitch 0.95mm, Lead Span 2.9mm, IPC Low Density)
pins: 1 CB (out), 2 GND (power), 3 FB (in), 4 ~{SHDN} (in), 5 VIN (power), 6 SW (power)

## LM2840YMKX-ADJL/NOPB
designator U?
100 mA up to 42V Input Step-Down DC/DC Regulator, Thin 6-pin SOT23, Pb-Free, 3000 Reel; PartNumber: LM2840YMKX-ADJL/NOPB; Manufacturer: National Semiconductor; PackageTopMarking: SF1B*XTT; PowerWise: N; CompType: MiscPower; High-Reliability: Y; DatasheetVersion: Aug-2011; PackageVersion: revE, Nov-2008; PackageReference: MK06A; PackageDescription: Molded TSOT, 2.97 x 1.65 x 0.87mm Body, 6 Lead, 0.95mm Pitch; RoHS: Y; PinCount: 6; Code_JEDEC: MO-193-AA; Code_IPC: SOT26A-6; ComponentLink1Description: Manufacturer URL; ComponentLink1URL: http://www.national.com/; ComponentLink2Description: LM2840 Datasheet; ComponentLink2URL: http://www.national.com/ds/LM/LM2840.pdf; ComponentLink3Description: LM2840 Web Page; ComponentLink3URL: http://www.national.com/pf/LM/LM2840.html; ComponentLink4Description: MK06A Package Page; ComponentLink4URL: http://www.national.com/packaging/folders/mk06a.html
footprint MK06A_N (SOT23, 6-Leads, Body 3.0x1.7mm, Pitch 0.95mm, Lead Span 2.9mm, IPC Medium Density)
footprint MK06A_L (SOT23, 6-Leads, Body 3.0x1.7mm, Pitch 0.95mm, Lead Span 2.9mm, IPC High Density)
footprint MK06A_M (SOT23, 6-Leads, Body 3.0x1.7mm, Pitch 0.95mm, Lead Span 2.9mm, IPC Low Density)
pins: 1 CB (out), 2 GND (power), 3 FB (in), 4 ~{SHDN} (in), 5 VIN (power), 6 SW (power)

## LM2840YQMK/NOPB
designator U?
100 mA up to 42V Input Step-Down DC/DC Regulator, Automotive Grade 1, Thin 6-pin SOT23, Pb-Free, 1000 Reel; PartNumber: LM2840YQMK/NOPB; Manufacturer: National Semiconductor; PackageTopMarking: SF2B*XTT; PowerWise: N; CompType: MiscPower; High-Reliability: Y; DatasheetVersion: Aug-2011; PackageVersion: revE, Nov-2008; PackageReference: MK06A; PackageDescription: Molded TSOT, 2.97 x 1.65 x 0.87mm Body, 6 Lead, 0.95mm Pitch; RoHS: Y; PinCount: 6; Code_JEDEC: MO-193-AA; Code_IPC: SOT26A-6; ComponentLink1Description: Manufacturer URL; ComponentLink1URL: http://www.national.com/; ComponentLink2Description: LM2840 Datasheet; ComponentLink2URL: http://www.national.com/ds/LM/LM2840.pdf; ComponentLink3Description: LM2840 Web Page; ComponentLink3URL: http://www.national.com/pf/LM/LM2840.html; ComponentLink4Description: MK06A Package Page; ComponentLink4URL: http://www.national.com/packaging/folders/mk06a.html
footprint MK06A_N (SOT23, 6-Leads, Body 3.0x1.7mm, Pitch 0.95mm, Lead Span 2.9mm, IPC Medium Density)
footprint MK06A_L (SOT23, 6-Leads, Body 3.0x1.7mm, Pitch 0.95mm, Lead Span 2.9mm, IPC High Density)
footprint MK06A_M (SOT23, 6-Leads, Body 3.0x1.7mm, Pitch 0.95mm, Lead Span 2.9mm, IPC Low Density)
pins: 1 CB (out), 2 GND (power), 3 FB (in), 4 ~{SHDN} (in), 5 VIN (power), 6 SW (power)

## LM2840YQMKX/NOPB
designator U?
100 mA up to 42V Input Step-Down DC/DC Regulator, Automotive Grade 1, Thin 6-pin SOT23, Pb-Free, 3000 Reel; PartNumber: LM2840YQMKX/NOPB; Manufacturer: National Semiconductor; PackageTopMarking: SF2B*XTT; PowerWise: N; CompType: MiscPower; High-Reliability: Y; DatasheetVersion: Aug-2011; PackageVersion: revE, Nov-2008; PackageReference: MK06A; PackageDescription: Molded TSOT, 2.97 x 1.65 x 0.87mm Body, 6 Lead, 0.95mm Pitch; RoHS: Y; PinCount: 6; Code_JEDEC: MO-193-AA; Code_IPC: SOT26A-6; ComponentLink1Description: Manufacturer URL; ComponentLink1URL: http://www.national.com/; ComponentLink2Description: LM2840 Datasheet; ComponentLink2URL: http://www.national.com/ds/LM/LM2840.pdf; ComponentLink3Description: LM2840 Web Page; ComponentLink3URL: http://www.national.com/pf/LM/LM2840.html; ComponentLink4Description: MK06A Package Page; ComponentLink4URL: http://www.national.com/packaging/folders/mk06a.html
footprint MK06A_N (SOT23, 6-Leads, Body 3.0x1.7mm, Pitch 0.95mm, Lead Span 2.9mm, IPC Medium Density)
footprint MK06A_L (SOT23, 6-Leads, Body 3.0x1.7mm, Pitch 0.95mm, Lead Span 2.9mm, IPC High Density)
footprint MK06A_M (SOT23, 6-Leads, Body 3.0x1.7mm, Pitch 0.95mm, Lead Span 2.9mm, IPC Low Density)
pins: 1 CB (out), 2 GND (power), 3 FB (in), 4 ~{SHDN} (in), 5 VIN (power), 6 SW (power)

## LM2841XMK-ADJL
designator U?
300 mA/600 mA up to 42V Input Step-Down DC/DC Regulator, 6-pin Tiny SOT23; PartNumber: LM2841XMK-ADJL; Manufacturer: National Semiconductor; PackageTopMarking: STFB*XTT; PowerWise: N; CompType: MiscPower; High-Reliability: Y; DatasheetVersion: Sep-2009; PackageVersion: revE, Nov-2008; PackageReference: MK06A; PackageDescription: Molded TSOT, 2.97 x 1.65 x 0.87mm Body, 6 Lead, 0.95mm Pitch; RoHS: Y; PinCount: 6; Code_JEDEC: MO-193-AA; Code_IPC: SOT26A-6; ComponentLink1Description: Manufacturer URL; ComponentLink1URL: http://www.national.com/; ComponentLink2Description: LM2841 Datasheet; ComponentLink2URL: http://www.national.com/ds/LM/LM2841.pdf; ComponentLink3Description: LM2841 Web Page; ComponentLink3URL: http://www.national.com/pf/LM/LM2841.html; ComponentLink4Description: MK06A Package Page; ComponentLink4URL: http://www.national.com/packaging/folders/mk06a.html
footprint MK06A_N (SOT23, 6-Leads, Body 3.0x1.7mm, Pitch 0.95mm, Lead Span 2.9mm, IPC Medium Density)
footprint MK06A_L (SOT23, 6-Leads, Body 3.0x1.7mm, Pitch 0.95mm, Lead Span 2.9mm, IPC High Density)
footprint MK06A_M (SOT23, 6-Leads, Body 3.0x1.7mm, Pitch 0.95mm, Lead Span 2.9mm, IPC Low Density)
pins: 1 CB (out), 2 GND (power), 3 FB (in), 4 ~{SHDN} (in), 5 VIN (power), 6 SW (power)

## LM2841XMK-ADJL/NOPB
designator U?
300 mA up to 42V Input Step-Down DC/DC Regulator, Thin 6-pin SOT23, Pb-Free, 1000 Reel; PartNumber: LM2841XMK-ADJL/NOPB; Manufacturer: National Semiconductor; PackageTopMarking: STFB*XTT; PowerWise: N; CompType: MiscPower; High-Reliability: Y; DatasheetVersion: Aug-2011; PackageVersion: revE, Nov-2008; PackageReference: MK06A; PackageDescription: Molded TSOT, 2.97 x 1.65 x 0.87mm Body, 6 Lead, 0.95mm Pitch; RoHS: Y; PinCount: 6; Code_JEDEC: MO-193-AA; Code_IPC: SOT26A-6; ComponentLink1Description: Manufacturer URL; ComponentLink1URL: http://www.national.com/; ComponentLink2Description: LM2841 Datasheet; ComponentLink2URL: http://www.national.com/ds/LM/LM2840.pdf; ComponentLink3Description: LM2841 Web Page; ComponentLink3URL: http://www.national.com/pf/LM/LM2841.html; ComponentLink4Description: MK06A Package Page; ComponentLink4URL: http://www.national.com/packaging/folders/mk06a.html
footprint MK06A_N (SOT23, 6-Leads, Body 3.0x1.7mm, Pitch 0.95mm, Lead Span 2.9mm, IPC Medium Density)
footprint MK06A_L (SOT23, 6-Leads, Body 3.0x1.7mm, Pitch 0.95mm, Lead Span 2.9mm, IPC High Density)
footprint MK06A_M (SOT23, 6-Leads, Body 3.0x1.7mm, Pitch 0.95mm, Lead Span 2.9mm, IPC Low Density)
pins: 1 CB (out), 2 GND (power), 3 FB (in), 4 ~{SHDN} (in), 5 VIN (power), 6 SW (power)

## LM2841XMKX-ADJL/NOPB
designator U?
300 mA up to 42V Input Step-Down DC/DC Regulator, Thin 6-pin SOT23, Pb-Free, 3000 Reel; PartNumber: LM2841XMKX-ADJL/NOPB; Manufacturer: National Semiconductor; PackageTopMarking: STFB*XTT; PowerWise: N; CompType: MiscPower; High-Reliability: Y; DatasheetVersion: Aug-2011; PackageVersion: revE, Nov-2008; PackageReference: MK06A; PackageDescription: Molded TSOT, 2.97 x 1.65 x 0.87mm Body, 6 Lead, 0.95mm Pitch; RoHS: Y; PinCount: 6; Code_JEDEC: MO-193-AA; Code_IPC: SOT26A-6; ComponentLink1Description: Manufacturer URL; ComponentLink1URL: http://www.national.com/; ComponentLink2Description: LM2841 Datasheet; ComponentLink2URL: http://www.national.com/ds/LM/LM2840.pdf; ComponentLink3Description: LM2841 Web Page; ComponentLink3URL: http://www.national.com/pf/LM/LM2841.html; ComponentLink4Description: MK06A Package Page; ComponentLink4URL: http://www.national.com/packaging/folders/mk06a.html
footprint MK06A_N (SOT23, 6-Leads, Body 3.0x1.7mm, Pitch 0.95mm, Lead Span 2.9mm, IPC Medium Density)
footprint MK06A_L (SOT23, 6-Leads, Body 3.0x1.7mm, Pitch 0.95mm, Lead Span 2.9mm, IPC High Density)
footprint MK06A_M (SOT23, 6-Leads, Body 3.0x1.7mm, Pitch 0.95mm, Lead Span 2.9mm, IPC Low Density)
pins: 1 CB (out), 2 GND (power), 3 FB (in), 4 ~{SHDN} (in), 5 VIN (power), 6 SW (power)

## LM2841XQMK/NOPB
designator U?
300 mA up to 42V Input Step-Down DC/DC Regulator, Automotive Grade 1, Thin 6-pin SOT23, Pb-Free, 1000 Reel; PartNumber: LM2841XQMK/NOPB; Manufacturer: National Semiconductor; PackageTopMarking: SB1B*XTT; PowerWise: N; CompType: MiscPower; High-Reliability: Y; DatasheetVersion: Aug-2011; PackageVersion: revE, Nov-2008; PackageReference: MK06A; PackageDescription: Molded TSOT, 2.97 x 1.65 x 0.87mm Body, 6 Lead, 0.95mm Pitch; RoHS: Y; PinCount: 6; Code_JEDEC: MO-193-AA; Code_IPC: SOT26A-6; ComponentLink1Description: Manufacturer URL; ComponentLink1URL: http://www.national.com/; ComponentLink2Description: LM2841 Datasheet; ComponentLink2URL: http://www.national.com/ds/LM/LM2840.pdf; ComponentLink3Description: LM2841 Web Page; ComponentLink3URL: http://www.national.com/pf/LM/LM2841.html; ComponentLink4Description: MK06A Package Page; ComponentLink4URL: http://www.national.com/packaging/folders/mk06a.html
footprint MK06A_N (SOT23, 6-Leads, Body 3.0x1.7mm, Pitch 0.95mm, Lead Span 2.9mm, IPC Medium Density)
footprint MK06A_L (SOT23, 6-Leads, Body 3.0x1.7mm, Pitch 0.95mm, Lead Span 2.9mm, IPC High Density)
footprint MK06A_M (SOT23, 6-Leads, Body 3.0x1.7mm, Pitch 0.95mm, Lead Span 2.9mm, IPC Low Density)
pins: 1 CB (out), 2 GND (power), 3 FB (in), 4 ~{SHDN} (in), 5 VIN (power), 6 SW (power)

## LM2841XQMKX/NOPB
designator U?
300 mA up to 42V Input Step-Down DC/DC Regulator, Automotive Grade 1, Thin 6-pin SOT23, Pb-Free, 3000 Reel; PartNumber: LM2841XQMKX/NOPB; Manufacturer: National Semiconductor; PackageTopMarking: SB1B*XTT; PowerWise: N; CompType: MiscPower; High-Reliability: Y; DatasheetVersion: Aug-2011; PackageVersion: revE, Nov-2008; PackageReference: MK06A; PackageDescription: Molded TSOT, 2.97 x 1.65 x 0.87mm Body, 6 Lead, 0.95mm Pitch; RoHS: Y; PinCount: 6; Code_JEDEC: MO-193-AA; Code_IPC: SOT26A-6; ComponentLink1Description: Manufacturer URL; ComponentLink1URL: http://www.national.com/; ComponentLink2Description: LM2841 Datasheet; ComponentLink2URL: http://www.national.com/ds/LM/LM2840.pdf; ComponentLink3Description: LM2841 Web Page; ComponentLink3URL: http://www.national.com/pf/LM/LM2841.html; ComponentLink4Description: MK06A Package Page; ComponentLink4URL: http://www.national.com/packaging/folders/mk06a.html
footprint MK06A_N (SOT23, 6-Leads, Body 3.0x1.7mm, Pitch 0.95mm, Lead Span 2.9mm, IPC Medium Density)
footprint MK06A_L (SOT23, 6-Leads, Body 3.0x1.7mm, Pitch 0.95mm, Lead Span 2.9mm, IPC High Density)
footprint MK06A_M (SOT23, 6-Leads, Body 3.0x1.7mm, Pitch 0.95mm, Lead Span 2.9mm, IPC Low Density)
pins: 1 CB (out), 2 GND (power), 3 FB (in), 4 ~{SHDN} (in), 5 VIN (power), 6 SW (power)

## LM2841YMK-ADJL
designator U?
300 mA/600 mA up to 42V Input Step-Down DC/DC Regulator, 6-pin Tiny SOT23; PartNumber: LM2841YMK-ADJL; Manufacturer: National Semiconductor; PackageTopMarking: STTB*XTT; PowerWise: N; CompType: MiscPower; High-Reliability: Y; DatasheetVersion: Sep-2009; PackageVersion: revE, Nov-2008; PackageReference: MK06A; PackageDescription: Molded TSOT, 2.97 x 1.65 x 0.87mm Body, 6 Lead, 0.95mm Pitch; RoHS: Y; PinCount: 6; Code_JEDEC: MO-193-AA; Code_IPC: SOT26A-6; ComponentLink1Description: Manufacturer URL; ComponentLink1URL: http://www.national.com/; ComponentLink2Description: LM2841 Datasheet; ComponentLink2URL: http://www.national.com/ds/LM/LM2841.pdf; ComponentLink3Description: LM2841 Web Page; ComponentLink3URL: http://www.national.com/pf/LM/LM2841.html; ComponentLink4Description: MK06A Package Page; ComponentLink4URL: http://www.national.com/packaging/folders/mk06a.html
footprint MK06A_N (SOT23, 6-Leads, Body 3.0x1.7mm, Pitch 0.95mm, Lead Span 2.9mm, IPC Medium Density)
footprint MK06A_L (SOT23, 6-Leads, Body 3.0x1.7mm, Pitch 0.95mm, Lead Span 2.9mm, IPC High Density)
footprint MK06A_M (SOT23, 6-Leads, Body 3.0x1.7mm, Pitch 0.95mm, Lead Span 2.9mm, IPC Low Density)
pins: 1 CB (out), 2 GND (power), 3 FB (in), 4 ~{SHDN} (in), 5 VIN (power), 6 SW (power)

## LM2841YMK-ADJL/NOPB
designator U?
300 mA up to 42V Input Step-Down DC/DC Regulator, Thin 6-pin SOT23, Pb-Free, 1000 Reel; PartNumber: LM2841YMK-ADJL/NOPB; Manufacturer: National Semiconductor; PackageTopMarking: STTB*XTT; PowerWise: N; CompType: MiscPower; High-Reliability: Y; DatasheetVersion: Aug-2011; PackageVersion: revE, Nov-2008; PackageReference: MK06A; PackageDescription: Molded TSOT, 2.97 x 1.65 x 0.87mm Body, 6 Lead, 0.95mm Pitch; RoHS: Y; PinCount: 6; Code_JEDEC: MO-193-AA; Code_IPC: SOT26A-6; ComponentLink1Description: Manufacturer URL; ComponentLink1URL: http://www.national.com/; ComponentLink2Description: LM2841 Datasheet; ComponentLink2URL: http://www.national.com/ds/LM/LM2840.pdf; ComponentLink3Description: LM2841 Web Page; ComponentLink3URL: http://www.national.com/pf/LM/LM2841.html; ComponentLink4Description: MK06A Package Page; ComponentLink4URL: http://www.national.com/packaging/folders/mk06a.html
footprint MK06A_N (SOT23, 6-Leads, Body 3.0x1.7mm, Pitch 0.95mm, Lead Span 2.9mm, IPC Medium Density)
footprint MK06A_L (SOT23, 6-Leads, Body 3.0x1.7mm, Pitch 0.95mm, Lead Span 2.9mm, IPC High Density)
footprint MK06A_M (SOT23, 6-Leads, Body 3.0x1.7mm, Pitch 0.95mm, Lead Span 2.9mm, IPC Low Density)
pins: 1 CB (out), 2 GND (power), 3 FB (in), 4 ~{SHDN} (in), 5 VIN (power), 6 SW (power)

## LM2841YMKX-ADJL/NOPB
designator U?
300 mA up to 42V Input Step-Down DC/DC Regulator, Thin 6-pin SOT23, Pb-Free, 3000 Reel; PartNumber: LM2841YMKX-ADJL/NOPB; Manufacturer: National Semiconductor; PackageTopMarking: STTB*XTT; PowerWise: N; CompType: MiscPower; High-Reliability: Y; DatasheetVersion: Aug-2011; PackageVersion: revE, Nov-2008; PackageReference: MK06A; PackageDescription: Molded TSOT, 2.97 x 1.65 x 0.87mm Body, 6 Lead, 0.95mm Pitch; RoHS: Y; PinCount: 6; Code_JEDEC: MO-193-AA; Code_IPC: SOT26A-6; ComponentLink1Description: Manufacturer URL; ComponentLink1URL: http://www.national.com/; ComponentLink2Description: LM2841 Datasheet; ComponentLink2URL: http://www.national.com/ds/LM/LM2840.pdf; ComponentLink3Description: LM2841 Web Page; ComponentLink3URL: http://www.national.com/pf/LM/LM2841.html; ComponentLink4Description: MK06A Package Page; ComponentLink4URL: http://www.national.com/packaging/folders/mk06a.html
footprint MK06A_N (SOT23, 6-Leads, Body 3.0x1.7mm, Pitch 0.95mm, Lead Span 2.9mm, IPC Medium Density)
footprint MK06A_L (SOT23, 6-Leads, Body 3.0x1.7mm, Pitch 0.95mm, Lead Span 2.9mm, IPC High Density)
footprint MK06A_M (SOT23, 6-Leads, Body 3.0x1.7mm, Pitch 0.95mm, Lead Span 2.9mm, IPC Low Density)
pins: 1 CB (out), 2 GND (power), 3 FB (in), 4 ~{SHDN} (in), 5 VIN (power), 6 SW (power)

## LM2841YQMK/NOPB
designator U?
300 mA up to 42V Input Step-Down DC/DC Regulator, Automotive Grade 1, Thin 6-pin SOT23, Pb-Free, 1000 Reel; PartNumber: LM2841YQMK/NOPB; Manufacturer: National Semiconductor; PackageTopMarking: SB2B*XTT; PowerWise: N; CompType: MiscPower; High-Reliability: Y; DatasheetVersion: Aug-2011; PackageVersion: revE, Nov-2008; PackageReference: MK06A; PackageDescription: Molded TSOT, 2.97 x 1.65 x 0.87mm Body, 6 Lead, 0.95mm Pitch; RoHS: Y; PinCount: 6; Code_JEDEC: MO-193-AA; Code_IPC: SOT26A-6; ComponentLink1Description: Manufacturer URL; ComponentLink1URL: http://www.national.com/; ComponentLink2Description: LM2841 Datasheet; ComponentLink2URL: http://www.national.com/ds/LM/LM2840.pdf; ComponentLink3Description: LM2841 Web Page; ComponentLink3URL: http://www.national.com/pf/LM/LM2841.html; ComponentLink4Description: MK06A Package Page; ComponentLink4URL: http://www.national.com/packaging/folders/mk06a.html
footprint MK06A_N (SOT23, 6-Leads, Body 3.0x1.7mm, Pitch 0.95mm, Lead Span 2.9mm, IPC Medium Density)
footprint MK06A_L (SOT23, 6-Leads, Body 3.0x1.7mm, Pitch 0.95mm, Lead Span 2.9mm, IPC High Density)
footprint MK06A_M (SOT23, 6-Leads, Body 3.0x1.7mm, Pitch 0.95mm, Lead Span 2.9mm, IPC Low Density)
pins: 1 CB (out), 2 GND (power), 3 FB (in), 4 ~{SHDN} (in), 5 VIN (power), 6 SW (power)

## LM2841YQMKX/NOPB
designator U?
300 mA up to 42V Input Step-Down DC/DC Regulator, Automotive Grade 1, Thin 6-pin SOT23, Pb-Free, 3000 Reel; PartNumber: LM2841YQMKX/NOPB; Manufacturer: National Semiconductor; PackageTopMarking: SB2B*XTT; PowerWise: N; CompType: MiscPower; High-Reliability: Y; DatasheetVersion: Aug-2011; PackageVersion: revE, Nov-2008; PackageReference: MK06A; PackageDescription: Molded TSOT, 2.97 x 1.65 x 0.87mm Body, 6 Lead, 0.95mm Pitch; RoHS: Y; PinCount: 6; Code_JEDEC: MO-193-AA; Code_IPC: SOT26A-6; ComponentLink1Description: Manufacturer URL; ComponentLink1URL: http://www.national.com/; ComponentLink2Description: LM2841 Datasheet; ComponentLink2URL: http://www.national.com/ds/LM/LM2840.pdf; ComponentLink3Description: LM2841 Web Page; ComponentLink3URL: http://www.national.com/pf/LM/LM2841.html; ComponentLink4Description: MK06A Package Page; ComponentLink4URL: http://www.national.com/packaging/folders/mk06a.html
footprint MK06A_N (SOT23, 6-Leads, Body 3.0x1.7mm, Pitch 0.95mm, Lead Span 2.9mm, IPC Medium Density)
footprint MK06A_L (SOT23, 6-Leads, Body 3.0x1.7mm, Pitch 0.95mm, Lead Span 2.9mm, IPC High Density)
footprint MK06A_M (SOT23, 6-Leads, Body 3.0x1.7mm, Pitch 0.95mm, Lead Span 2.9mm, IPC Low Density)
pins: 1 CB (out), 2 GND (power), 3 FB (in), 4 ~{SHDN} (in), 5 VIN (power), 6 SW (power)

## LM2842XMK-ADJL
designator U?
300 mA/600 mA up to 42V Input Step-Down DC/DC Regulator, 6-pin Tiny SOT23; PartNumber: LM2842XMK-ADJL; Manufacturer: National Semiconductor; PackageTopMarking: STVB*XTT; PowerWise: N; CompType: MiscPower; High-Reliability: Y; DatasheetVersion: Sep-2009; PackageVersion: revE, Nov-2008; PackageReference: MK06A; PackageDescription: Molded TSOT, 2.97 x 1.65 x 0.87mm Body, 6 Lead, 0.95mm Pitch; RoHS: Y; PinCount: 6; Code_JEDEC: MO-193-AA; Code_IPC: SOT26A-6; ComponentLink1Description: Manufacturer URL; ComponentLink1URL: http://www.national.com/; ComponentLink2Description: LM2841 Datasheet; ComponentLink2URL: http://www.national.com/ds/LM/LM2841.pdf; ComponentLink3Description: LM2842 Web Page; ComponentLink3URL: http://www.national.com/pf/LM/LM2842.html; ComponentLink4Description: MK06A Package Page; ComponentLink4URL: http://www.national.com/packaging/folders/mk06a.html
footprint MK06A_N (SOT23, 6-Leads, Body 3.0x1.7mm, Pitch 0.95mm, Lead Span 2.9mm, IPC Medium Density)
footprint MK06A_L (SOT23, 6-Leads, Body 3.0x1.7mm, Pitch 0.95mm, Lead Span 2.9mm, IPC High Density)
footprint MK06A_M (SOT23, 6-Leads, Body 3.0x1.7mm, Pitch 0.95mm, Lead Span 2.9mm, IPC Low Density)
pins: 1 CB (out), 2 GND (power), 3 FB (in), 4 ~{SHDN} (in), 5 VIN (power), 6 SW (power)